# EAGLE library part TMM-115-XX-X-D (library con-samtec-tmm)
HEADER
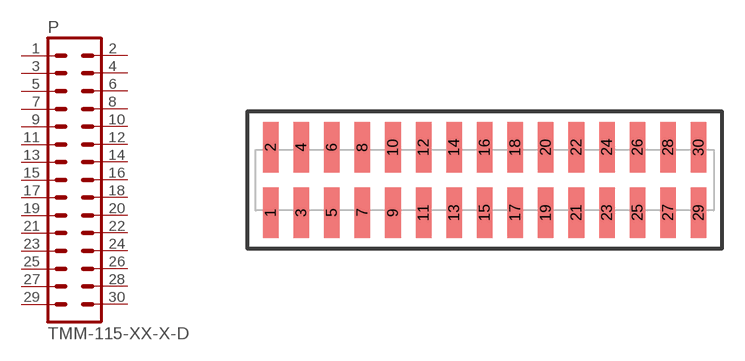
[diagram p12: symbol with the pads of TMM-115-XX-X-D; footprint TMM-115-XX-X-D]

Designator prefix P

## TMM-115-XX-X-D  [TMM-115-XX-X-D]
1  1  pas
2  2  pas
3  3  pas
4  4  pas
5  5  pas
6  6  pas
7  7  pas
8  8  pas
9  9  pas
10  10  pas
11  11  pas
12  12  pas
13  13  pas
14  14  pas
15  15  pas
16  16  pas
17  17  pas
18  18  pas
19  19  pas
20  20  pas
21  21  pas
22  22  pas
23  23  pas
24  24  pas
25  25  pas
26  26  pas
27  27  pas
28  28  pas
29  29  pas
30  30  pas

## Footprint TMM-115-XX-X-D (pad centres in mm)
HEADER
smd 1.02 x 3.3: 1 -14,-2.134; 2 -14,2.134; 3 -12,-2.134; 4 -12,2.134; 5 -10,-2.134; 6 -10,2.134; 7 -8,-2.134; 8 -8,2.134; 9 -6,-2.134; 10 -6,2.134; 11 -4,-2.134; 12 -4,2.134; 13 -2,-2.134; 14 -2,2.134; 15 0,-2.134; 16 0,2.134; 17 2,-2.134; 18 2,2.134; 19 4,-2.134; 20 4,2.134; 21 6,-2.134; 22 6,2.134; 23 8,-2.134; 24 8,2.134; 25 10,-2.134; 26 10,2.134; 27 12,-2.134; 28 12,2.134; 29 14,-2.134; 30 14,2.134